# Altium footprint library EATON _HCM1A1307V2-560-R.PcbLib: 1 footprints
Each footprint in its own frame and in the unit in brackets; x right, y up, seen from the top. Pads: shape width x height; smd on the part's side, far side on the other; paste and mask are expansions set on the pad; w line width, h text height; cw(c..) or ccw(c..) is an arc to the next point about the centre after c.
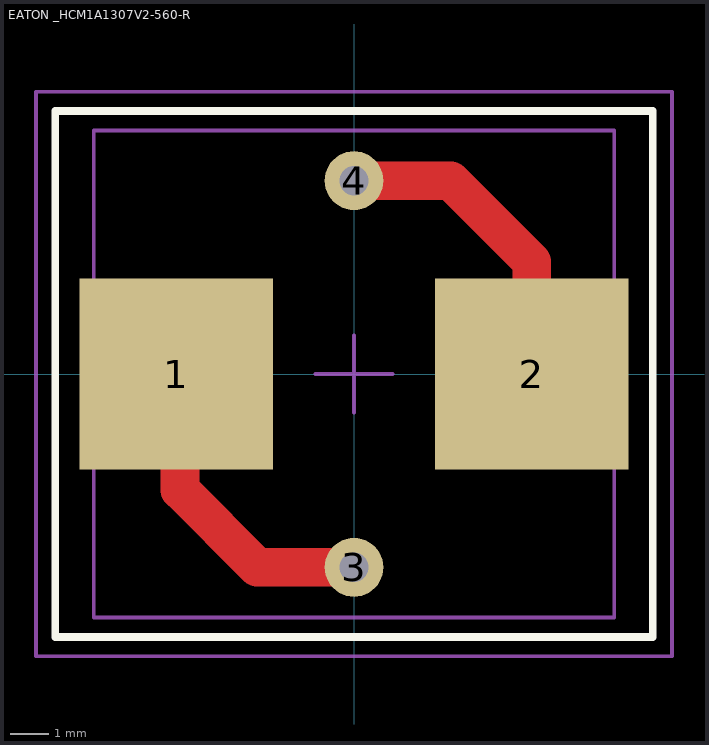
[diagram p0: the footprint, top view; thin cyan lines are the x and y axes]

## EATON _HCM1A1307V2-560-R [mm] "FIXED IND 56UH 4A 65 mOHM SMD"
pads (4):
  rect 5x4.95 smd: 1(-4.6,0) 2(4.6,0)
  round 1.524 hole 0.762: 3(0,-5) 4(0,5)
Top Layer:
  lines w0.254: -4.6,-0.4 -4.6,0 ; 0,-5 0,-4.6 ; 0,4.6 0,5 0,4.6
  lines w1: -4.5,-0.1 -4.5,-3 -2.5,-5 0,-5 ; 0,5 2.5,5 4.6,2.9 4.6,0
Top Overlay:
  lines w0.2: -7.73,-6.8 7.73,-6.8 7.73,6.8 -7.73,6.8 -7.73,-6.8
Mechanical 1:
  lines w0.1: -6.73,-6.3 6.73,-6.3 6.73,6.3 -6.73,6.3 -6.73,-6.3
Mechanical 15:
  lines w0.1: -1,0 1,0 ; 0,-1 0,1 ; -8.23,-7.3 8.23,-7.3 8.23,7.3 -8.23,7.3 -8.23,-7.3
3D body "HCM1A1307V2-560-R.STEP": height 6.4, standoff -0.1, extent -6.725,-6.3 6.725,6.3